# Altium footprint library ServoLib.PcbLib: 2 footprints
Each footprint in its own frame and in the unit in brackets; x right, y up, seen from the top. Pads: shape width x height; smd on the part's side, far side on the other; paste and mask are expansions set on the pad; w line width, h text height; cw(c..) or ccw(c..) is an arc to the next point about the centre after c.
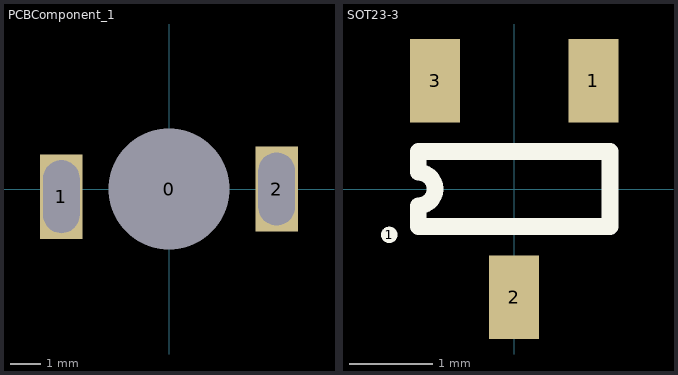
[diagram p0: the footprints below, top view; thin cyan lines are the x and y axes]

## PCBComponent_1 [mm]
pads (3):
  rect 1x1.8 hole 4: 0(0,0)
  rect 1.4x2.8 / inner rect 1x1.8 / far side rect 1.4x2.8 hole 1.2 slot 2.4 at 90 deg: 1(-3.55,-0.254) 2(3.55,0)

## SOT23-3 [mm] "SOT23-3"
pads (4):
  round 0.2 on Top Overlay: 1(-1.5,-0.55)
  rect 0.6x1 smd: 1(0.95,1.3) 2(0,-1.3) 3(-0.95,1.3)
Top Overlay:
  lines w0.2: -1.15,-0.45 1.15,-0.45 1.15,0.45 -1.15,0.45 -1.15,0.2 cw(c-1.15,0) -1.15,-0.2 -1.15,-0.45
3D body "SOT23-3.step": height 1.3, standoff 0, extent -1.45,-1.4 1.45,1.4